# Altium schematic symbol library Diode_VS-30WQ03FN.SchLib: 1 symbol
Pins are listed as number, name and electrical type; pins without a type are passive.

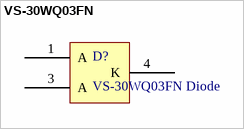
[diagram p0: symbol VS-30WQ03FN]

## VS-30WQ03FN
designator D?, comment VS-30WQ03FN Diode
Manufacturer: Vishay; Reference: VS-30WQ03FN
footprint VS-30WQ03FN (D-PAK, 4-Pads, Body 6,21x6,73mm (max), IPC Medium Density)
pins: 1 A, 3 A, 4 K